# EAGLE library part ITS4040DEPDXUMA1 (library ITS4040DEPDXUMA1)
Power Switch/Driver 1:1 N-Channel 2.6A PG-TSDSO-14
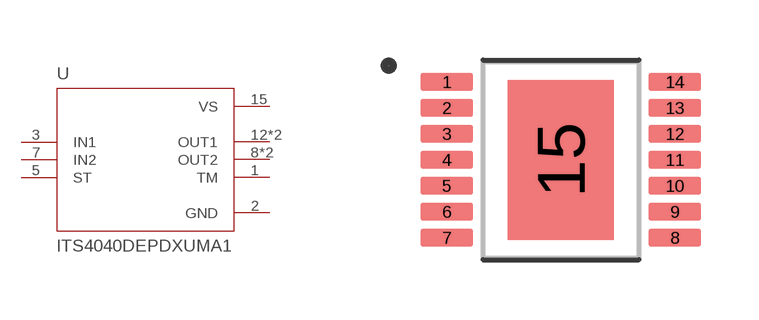
[diagram p0: symbol with the pads of SOP65P600X115-15N; footprint SOP65P600X115-15N]

Designator prefix U

## ITS4040DEPDXUMA1 (DESCRIPTION: Power Switch/Driver 1:1 N-Channel 2.6A PG-TSDSO-14; DIGI-KEY_PART_NUMBER: ITS4040DEPDXUMA1TR-ND; MF: Infineon Technologies; MP: ITS4040DEPDXUMA1; PACKAGE: TSSOP-14 Infineon Technologies)  [SOP65P600X115-15N]
1  TM  pas
2  GND  pwr
3  IN1  in
5  ST  in
7  IN2  in
8  OUT2  out
10  OUT2  out
12  OUT1  out
14  OUT1  out
15  VS  pwr

## Footprint SOP65P600X115-15N (pad centres in mm)
smd 1.31 x 0.45: 1 -2.85,1.95; 2 -2.85,1.3; 3 -2.85,0.65; 4 -2.85,0; 5 -2.85,-0.65; 6 -2.85,-1.3; 7 -2.85,-1.95; 8 2.85,-1.95; 9 2.85,-1.3; 10 2.85,-0.65; 11 2.85,0; 12 2.85,0.65; 13 2.85,1.3; 14 2.85,1.95
smd 2.65 x 4: 15 0,0